# EAGLE library part HEADER_12 (library 0_Library Rev1)
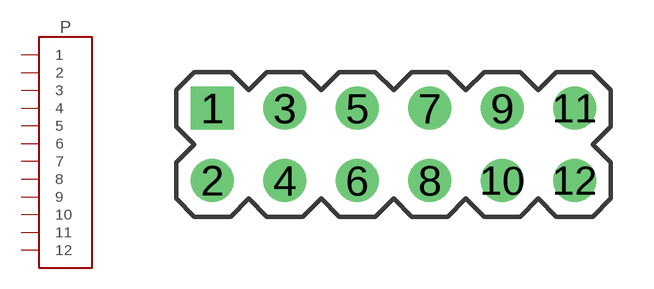
[diagram p10: symbol with the pads of HEADER_12; footprint HEADER_12]

Designator prefix P

## HEADER_12  [HEADER_12]
1  1  pas
2  2  pas
3  3  pas
4  4  pas
5  5  pas
6  6  pas
7  7  pas
8  8  pas
9  9  pas
10  10  pas
11  11  pas
12  12  pas

## Footprint HEADER_12 (pad centres in mm)
PIN HEADER
drill 1 square: 1 -6.35,0
drill 1: 2 -6.35,-2.54; 3 -3.81,0; 4 -3.81,-2.54; 5 -1.27,0; 6 -1.27,-2.54; 7 1.27,0; 8 1.27,-2.54; 9 3.81,0; 10 3.81,-2.54; 11 6.35,0; 12 6.35,-2.54